# EAGLE library part SI473X (library 000001)
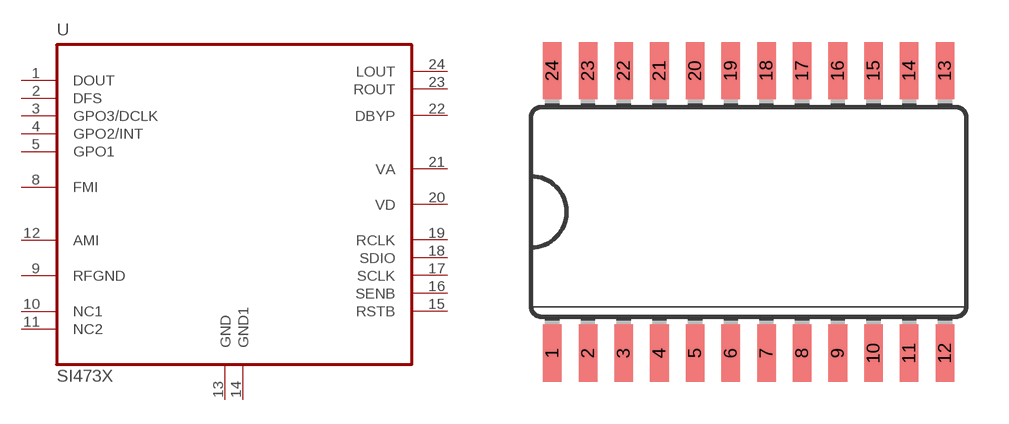
[diagram p105: symbol with the pads of SO24; footprint SO24]

Designator prefix -

## SI473XD60  [SO24]
1  DOUT
2  DFS
3  GPO3/DCLK
4  GPO2/INT
5  GPO1
8  FMI
9  RFGND
10  NC1
11  NC2
12  AMI
13  GND  pwr
14  GND1  pwr
15  RSTB
16  SENB
17  SCLK
18  SDIO
19  RCLK
20  VD
21  VA
22  DBYP
23  ROUT
24  LOUT

## Footprint SO24 (pad centres in mm)
smd 0.66 x 2.032: 1 -6.985,-5.029; 2 -5.715,-5.029; 3 -4.445,-5.029; 4 -3.175,-5.029; 5 -1.905,-5.029; 6 -0.635,-5.029; 7 0.635,-5.029; 8 1.905,-5.029; 9 3.175,-5.029; 10 4.445,-5.029; 11 5.715,-5.029; 12 6.985,-5.029; 13 6.985,5.029; 14 5.715,5.029; 15 4.445,5.029; 16 3.175,5.029; 17 1.905,5.029; 18 0.635,5.029; 19 -0.635,5.029; 20 -1.905,5.029; 21 -3.175,5.029; 22 -4.445,5.029; 23 -5.715,5.029; 24 -6.985,5.029